# EAGLE library part 904 (library INA219)
INA219B Current Monitor Power Management Evaluation Board Check prices <https://pricing.snapeda.com/parts/904/Adafruit%20Industries/view-part?ref=eda>
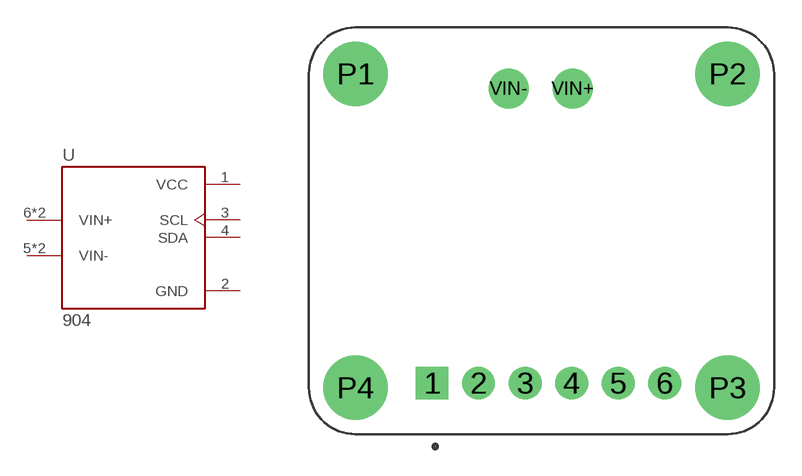
[diagram p0: symbol with the pads of MODULE_904; footprint MODULE_904]

Designator prefix U

## 904 (Availability: In Stock; Description: INA219B Current Monitor Power Management Evaluation Board; MF: Adafruit Industries; MP: 904; Package: Evaluation Board Adafruit Industries; Price: None)  [MODULE_904]
1  VCC  pwr
2  GND  pwr
3  SCL  in
4  SDA
5  VIN-  in
6  VIN+  in
VIN+  VIN+  in
VIN-  VIN-  in

## Footprint MODULE_904 (pad centres in mm)
drill 1 pad 1.778 square: 1 -5.969,-8.326
drill 1 pad 1.778: 2 -3.429,-8.326; 3 -0.889,-8.326; 4 1.651,-8.326; 5 4.191,-8.326; 6 6.731,-8.326
drill 2.5 pad 3.2: P1 -10.16,8.58; P2 10.16,8.58; P3 10.16,-8.58; P4 -10.16,-8.58
drill 1 pad 2.184: VIN+ 1.7,7.78; VIN- -1.8,7.78